# Altium schematic symbol library Converter_DCDC.SchLib: 544 symbols (part 5 of 6)
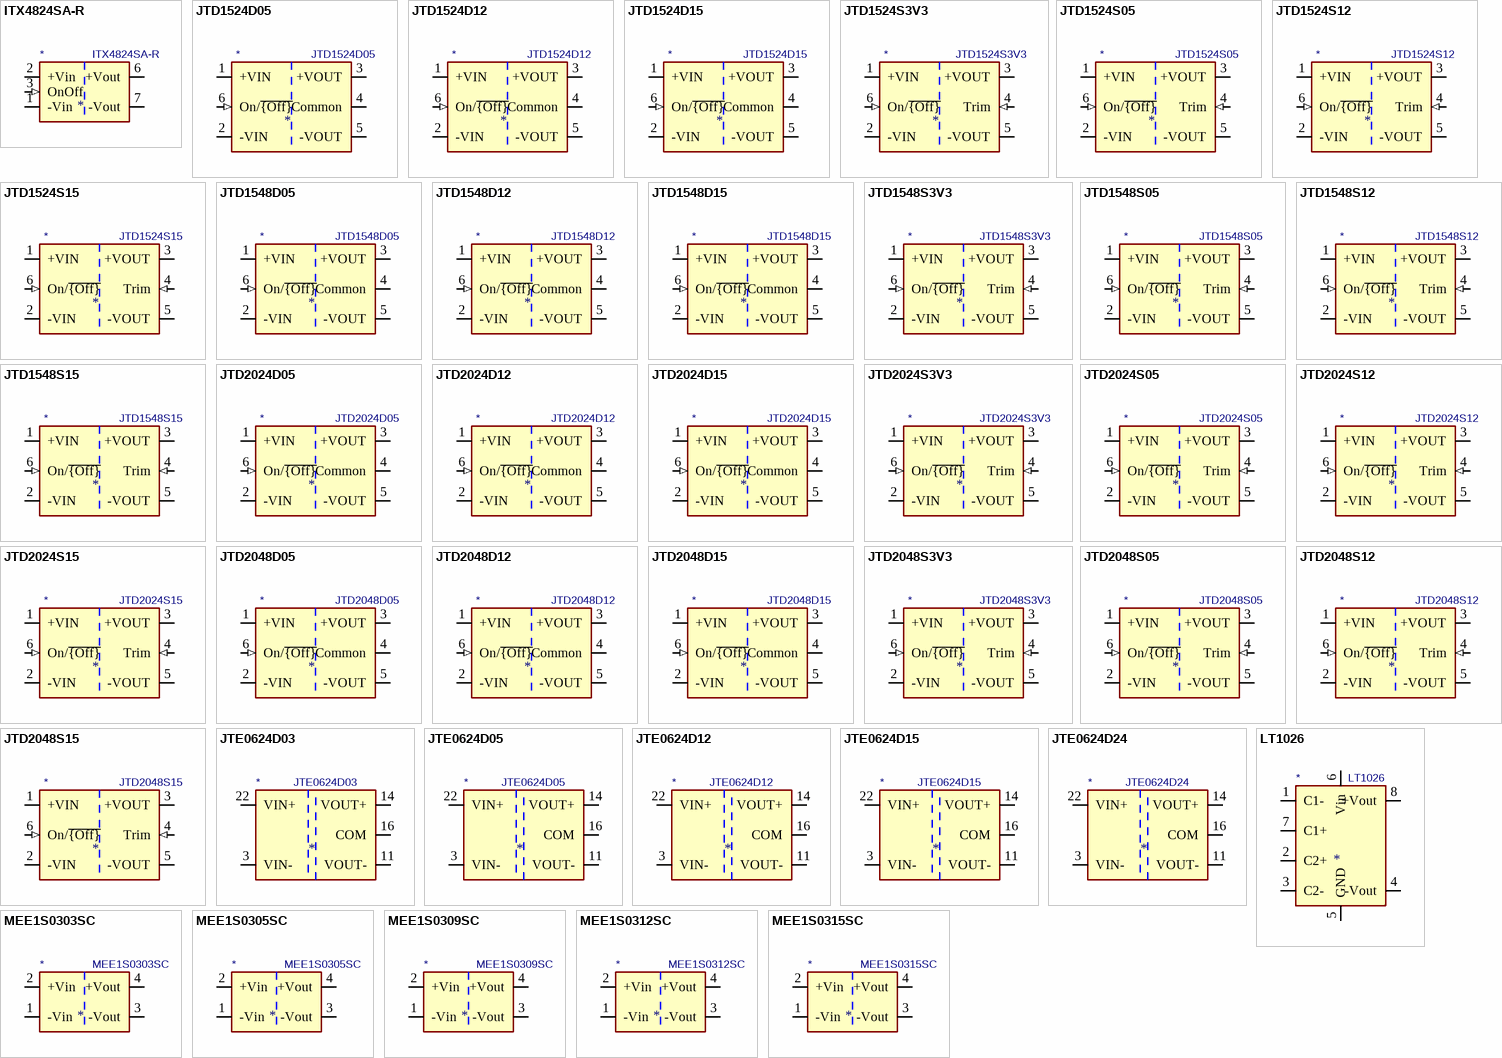
[diagram p17: symbols ITX4824SA-R to MEE1S0315SC]

## JTD1548D12
designator *  value JTD1548D12
ki_keywords: isolated isolation dc-dc converter step-down dual; ki_description: Isolated 15W 4:1 input DC/DC converter module, 18-75V input voltage, +/-12V output voltage, DIP; ki_fp_filters: Converter*DCDC*XP?POWER*JTDxxxxxxx*; Footprint: Converter_DCDC:Converter_DCDC_XP_POWER_JTDxxxxxxx_THT; Supplier: https://www.xppower.com/portals/0/pdfs/SF_JTD15.pdf
footprint Converter_DCDC_XP_POWER_JTDxxxxxxx_THT
pins: 1 +VIN (power), 2 -VIN (power), 3 +VOUT (power), 4 Common (power), 5 -VOUT (power), 6 On/~{{Off}} (in)

## JTD1548D15
designator *  value JTD1548D15
ki_keywords: isolated isolation dc-dc converter step-down dual; ki_description: Isolated 15W 4:1 input DC/DC converter module, 18-75V input voltage, +/-15V output voltage, DIP; ki_fp_filters: Converter*DCDC*XP?POWER*JTDxxxxxxx*; Footprint: Converter_DCDC:Converter_DCDC_XP_POWER_JTDxxxxxxx_THT; Supplier: https://www.xppower.com/portals/0/pdfs/SF_JTD15.pdf
footprint Converter_DCDC_XP_POWER_JTDxxxxxxx_THT
pins: 1 +VIN (power), 2 -VIN (power), 3 +VOUT (power), 4 Common (power), 5 -VOUT (power), 6 On/~{{Off}} (in)

## JTD1548S3V3
designator *  value JTD1548S3V3
ki_keywords: isolated isolation dc-dc converter step-down; ki_description: Isolated 15W 4:1 input DC/DC converter module, 18-75V input voltage, 3.3V output voltage, DIP; ki_fp_filters: Converter*DCDC*XP?POWER*JTDxxxxxxx*; Footprint: Converter_DCDC:Converter_DCDC_XP_POWER_JTDxxxxxxx_THT; Supplier: https://www.xppower.com/portals/0/pdfs/SF_JTD15.pdf
footprint Converter_DCDC_XP_POWER_JTDxxxxxxx_THT
pins: 1 +VIN (power), 2 -VIN (power), 3 +VOUT (power), 4 Trim (in), 5 -VOUT (power), 6 On/~{{Off}} (in)

## JTD1548S05
designator *  value JTD1548S05
ki_keywords: isolated isolation dc-dc converter step-down; ki_description: Isolated 15W 4:1 input DC/DC converter module, 18-75V input voltage, 5V output voltage, DIP; ki_fp_filters: Converter*DCDC*XP?POWER*JTDxxxxxxx*; Footprint: Converter_DCDC:Converter_DCDC_XP_POWER_JTDxxxxxxx_THT; Supplier: https://www.xppower.com/portals/0/pdfs/SF_JTD15.pdf
footprint Converter_DCDC_XP_POWER_JTDxxxxxxx_THT
pins: 1 +VIN (power), 2 -VIN (power), 3 +VOUT (power), 4 Trim (in), 5 -VOUT (power), 6 On/~{{Off}} (in)

## JTD1548S12
designator *  value JTD1548S12
ki_keywords: isolated isolation dc-dc converter step-down; ki_description: Isolated 15W 4:1 input DC/DC converter module, 18-75V input voltage, 12V output voltage, DIP; ki_fp_filters: Converter*DCDC*XP?POWER*JTDxxxxxxx*; Footprint: Converter_DCDC:Converter_DCDC_XP_POWER_JTDxxxxxxx_THT; Supplier: https://www.xppower.com/portals/0/pdfs/SF_JTD15.pdf
footprint Converter_DCDC_XP_POWER_JTDxxxxxxx_THT
pins: 1 +VIN (power), 2 -VIN (power), 3 +VOUT (power), 4 Trim (in), 5 -VOUT (power), 6 On/~{{Off}} (in)

## JTD1548S15
designator *  value JTD1548S15
ki_keywords: isolated isolation dc-dc converter step-down; ki_description: Isolated 15W 4:1 input DC/DC converter module, 18-75V input voltage, 15V output voltage, DIP; ki_fp_filters: Converter*DCDC*XP?POWER*JTDxxxxxxx*; Footprint: Converter_DCDC:Converter_DCDC_XP_POWER_JTDxxxxxxx_THT; Supplier: https://www.xppower.com/portals/0/pdfs/SF_JTD15.pdf
footprint Converter_DCDC_XP_POWER_JTDxxxxxxx_THT
pins: 1 +VIN (power), 2 -VIN (power), 3 +VOUT (power), 4 Trim (in), 5 -VOUT (power), 6 On/~{{Off}} (in)

## JTD2024D05
designator *  value JTD2024D05
ki_keywords: isolated isolation dc-dc converter step-down dual; ki_description: Isolated 20W 4:1 input DC/DC converter module, 9-36V input voltage, +/-5V output voltage, DIP; ki_fp_filters: Converter*DCDC*XP?POWER*JTDxxxxxxx*; Footprint: Converter_DCDC:Converter_DCDC_XP_POWER_JTDxxxxxxx_THT; Supplier: https://www.xppower.com/portals/0/pdfs/SF_JTD20.pdf
footprint Converter_DCDC_XP_POWER_JTDxxxxxxx_THT
pins: 1 +VIN (power), 2 -VIN (power), 3 +VOUT (power), 4 Common (power), 5 -VOUT (power), 6 On/~{{Off}} (in)

## JTD2024D12
designator *  value JTD2024D12
ki_keywords: isolated isolation dc-dc converter step-down dual; ki_description: Isolated 20W 4:1 input DC/DC converter module, 9-36V input voltage, +/-12V output voltage, DIP; ki_fp_filters: Converter*DCDC*XP?POWER*JTDxxxxxxx*; Footprint: Converter_DCDC:Converter_DCDC_XP_POWER_JTDxxxxxxx_THT; Supplier: https://www.xppower.com/portals/0/pdfs/SF_JTD20.pdf
footprint Converter_DCDC_XP_POWER_JTDxxxxxxx_THT
pins: 1 +VIN (power), 2 -VIN (power), 3 +VOUT (power), 4 Common (power), 5 -VOUT (power), 6 On/~{{Off}} (in)

## JTD2024D15
designator *  value JTD2024D15
ki_keywords: isolated isolation dc-dc converter step-down dual; ki_description: Isolated 20W 4:1 input DC/DC converter module, 9-36V input voltage, +/-15V output voltage, DIP; ki_fp_filters: Converter*DCDC*XP?POWER*JTDxxxxxxx*; Footprint: Converter_DCDC:Converter_DCDC_XP_POWER_JTDxxxxxxx_THT; Supplier: https://www.xppower.com/portals/0/pdfs/SF_JTD20.pdf
footprint Converter_DCDC_XP_POWER_JTDxxxxxxx_THT
pins: 1 +VIN (power), 2 -VIN (power), 3 +VOUT (power), 4 Common (power), 5 -VOUT (power), 6 On/~{{Off}} (in)

## JTD2024S3V3
designator *  value JTD2024S3V3
ki_keywords: isolated isolation dc-dc converter step-down; ki_description: Isolated 20W 4:1 input DC/DC converter module, 9-36V input voltage, 3.3V output voltage, DIP; ki_fp_filters: Converter*DCDC*XP?POWER*JTDxxxxxxx*; Footprint: Converter_DCDC:Converter_DCDC_XP_POWER_JTDxxxxxxx_THT; Supplier: https://www.xppower.com/portals/0/pdfs/SF_JTD20.pdf
footprint Converter_DCDC_XP_POWER_JTDxxxxxxx_THT
pins: 1 +VIN (power), 2 -VIN (power), 3 +VOUT (power), 4 Trim (in), 5 -VOUT (power), 6 On/~{{Off}} (in)

## JTD2024S05
designator *  value JTD2024S05
ki_keywords: isolated isolation dc-dc converter step-down; ki_description: Isolated 20W 4:1 input DC/DC converter module, 9-36V input voltage, 5V output voltage, DIP; ki_fp_filters: Converter*DCDC*XP?POWER*JTDxxxxxxx*; Footprint: Converter_DCDC:Converter_DCDC_XP_POWER_JTDxxxxxxx_THT; Supplier: https://www.xppower.com/portals/0/pdfs/SF_JTD20.pdf
footprint Converter_DCDC_XP_POWER_JTDxxxxxxx_THT
pins: 1 +VIN (power), 2 -VIN (power), 3 +VOUT (power), 4 Trim (in), 5 -VOUT (power), 6 On/~{{Off}} (in)

## JTD2024S12
designator *  value JTD2024S12
ki_keywords: isolated isolation dc-dc converter step-down; ki_description: Isolated 20W 4:1 input DC/DC converter module, 9-36V input voltage, 12V output voltage, DIP; ki_fp_filters: Converter*DCDC*XP?POWER*JTDxxxxxxx*; Footprint: Converter_DCDC:Converter_DCDC_XP_POWER_JTDxxxxxxx_THT; Supplier: https://www.xppower.com/portals/0/pdfs/SF_JTD20.pdf
footprint Converter_DCDC_XP_POWER_JTDxxxxxxx_THT
pins: 1 +VIN (power), 2 -VIN (power), 3 +VOUT (power), 4 Trim (in), 5 -VOUT (power), 6 On/~{{Off}} (in)

## JTD2024S15
designator *  value JTD2024S15
ki_keywords: isolated isolation dc-dc converter step-down; ki_description: Isolated 20W 4:1 input DC/DC converter module, 9-36V input voltage, 15V output voltage, DIP; ki_fp_filters: Converter*DCDC*XP?POWER*JTDxxxxxxx*; Footprint: Converter_DCDC:Converter_DCDC_XP_POWER_JTDxxxxxxx_THT; Supplier: https://www.xppower.com/portals/0/pdfs/SF_JTD20.pdf
footprint Converter_DCDC_XP_POWER_JTDxxxxxxx_THT
pins: 1 +VIN (power), 2 -VIN (power), 3 +VOUT (power), 4 Trim (in), 5 -VOUT (power), 6 On/~{{Off}} (in)

## JTD2048D05
designator *  value JTD2048D05
ki_keywords: isolated isolation dc-dc converter step-down dual; ki_description: Isolated 20W 4:1 input DC/DC converter module, 18-75V input voltage, +/-5V output voltage, DIP; ki_fp_filters: Converter*DCDC*XP?POWER*JTDxxxxxxx*; Footprint: Converter_DCDC:Converter_DCDC_XP_POWER_JTDxxxxxxx_THT; Supplier: https://www.xppower.com/portals/0/pdfs/SF_JTD20.pdf
footprint Converter_DCDC_XP_POWER_JTDxxxxxxx_THT
pins: 1 +VIN (power), 2 -VIN (power), 3 +VOUT (power), 4 Common (power), 5 -VOUT (power), 6 On/~{{Off}} (in)

## JTD2048D12
designator *  value JTD2048D12
ki_keywords: isolated isolation dc-dc converter step-down dual; ki_description: Isolated 20W 4:1 input DC/DC converter module, 18-75V input voltage, +/-12V output voltage, DIP; ki_fp_filters: Converter*DCDC*XP?POWER*JTDxxxxxxx*; Footprint: Converter_DCDC:Converter_DCDC_XP_POWER_JTDxxxxxxx_THT; Supplier: https://www.xppower.com/portals/0/pdfs/SF_JTD20.pdf
footprint Converter_DCDC_XP_POWER_JTDxxxxxxx_THT
pins: 1 +VIN (power), 2 -VIN (power), 3 +VOUT (power), 4 Common (power), 5 -VOUT (power), 6 On/~{{Off}} (in)

## JTD2048D15
designator *  value JTD2048D15
ki_keywords: isolated isolation dc-dc converter step-down dual; ki_description: Isolated 20W 4:1 input DC/DC converter module, 18-75V input voltage, +/-15V output voltage, DIP; ki_fp_filters: Converter*DCDC*XP?POWER*JTDxxxxxxx*; Footprint: Converter_DCDC:Converter_DCDC_XP_POWER_JTDxxxxxxx_THT; Supplier: https://www.xppower.com/portals/0/pdfs/SF_JTD20.pdf
footprint Converter_DCDC_XP_POWER_JTDxxxxxxx_THT
pins: 1 +VIN (power), 2 -VIN (power), 3 +VOUT (power), 4 Common (power), 5 -VOUT (power), 6 On/~{{Off}} (in)

## JTD2048S3V3
designator *  value JTD2048S3V3
ki_keywords: isolated isolation dc-dc converter step-down; ki_description: Isolated 20W 4:1 input DC/DC converter module, 18-75V input voltage, 3.3V output voltage, DIP; ki_fp_filters: Converter*DCDC*XP?POWER*JTDxxxxxxx*; Footprint: Converter_DCDC:Converter_DCDC_XP_POWER_JTDxxxxxxx_THT; Supplier: https://www.xppower.com/portals/0/pdfs/SF_JTD20.pdf
footprint Converter_DCDC_XP_POWER_JTDxxxxxxx_THT
pins: 1 +VIN (power), 2 -VIN (power), 3 +VOUT (power), 4 Trim (in), 5 -VOUT (power), 6 On/~{{Off}} (in)

## JTD2048S05
designator *  value JTD2048S05
ki_keywords: isolated isolation dc-dc converter step-down; ki_description: Isolated 20W 4:1 input DC/DC converter module, 18-75V input voltage, 5V output voltage, DIP; ki_fp_filters: Converter*DCDC*XP?POWER*JTDxxxxxxx*; Footprint: Converter_DCDC:Converter_DCDC_XP_POWER_JTDxxxxxxx_THT; Supplier: https://www.xppower.com/portals/0/pdfs/SF_JTD20.pdf
footprint Converter_DCDC_XP_POWER_JTDxxxxxxx_THT
pins: 1 +VIN (power), 2 -VIN (power), 3 +VOUT (power), 4 Trim (in), 5 -VOUT (power), 6 On/~{{Off}} (in)

## JTD2048S12
designator *  value JTD2048S12
ki_keywords: isolated isolation dc-dc converter step-down; ki_description: Isolated 20W 4:1 input DC/DC converter module, 18-75V input voltage, 12V output voltage, DIP; ki_fp_filters: Converter*DCDC*XP?POWER*JTDxxxxxxx*; Footprint: Converter_DCDC:Converter_DCDC_XP_POWER_JTDxxxxxxx_THT; Supplier: https://www.xppower.com/portals/0/pdfs/SF_JTD20.pdf
footprint Converter_DCDC_XP_POWER_JTDxxxxxxx_THT
pins: 1 +VIN (power), 2 -VIN (power), 3 +VOUT (power), 4 Trim (in), 5 -VOUT (power), 6 On/~{{Off}} (in)

## JTD2048S15
designator *  value JTD2048S15
ki_keywords: isolated isolation dc-dc converter step-down; ki_description: Isolated 20W 4:1 input DC/DC converter module, 18-75V input voltage, 15V output voltage, DIP; ki_fp_filters: Converter*DCDC*XP?POWER*JTDxxxxxxx*; Footprint: Converter_DCDC:Converter_DCDC_XP_POWER_JTDxxxxxxx_THT; Supplier: https://www.xppower.com/portals/0/pdfs/SF_JTD20.pdf
footprint Converter_DCDC_XP_POWER_JTDxxxxxxx_THT
pins: 1 +VIN (power), 2 -VIN (power), 3 +VOUT (power), 4 Trim (in), 5 -VOUT (power), 6 On/~{{Off}} (in)

## JTE0624D03
designator *  value JTE0624D03
ki_keywords: XP_POWER isolated DC/DC Converter module; ki_description: XP Power 6W Isolated DC/DC Converter Module, Dual Output Voltage ±3.3V, 9-36V Input Voltage; ki_fp_filters: *XP?POWER*JTExxxxDxx*; Footprint: Converter_DCDC:Converter_DCDC_XP_POWER_JTExxxxDxx_THT; Supplier: https://www.xppower.com/Portals/0/pdfs/SF_JTE06.pdf
footprint Converter_DCDC_XP_POWER_JTExxxxDxx_THT
pins: 2 VIN- hidden, 3 VIN- (power), 9 COM hidden, 11 VOUT- (power), 14 VOUT+ (power), 16 COM (power), 22 VIN+ (power), 23 VIN+ hidden

## JTE0624D05
designator *  value JTE0624D05
ki_keywords: XP_POWER isolated DC/DC Converter module; ki_description: XP Power 6W Isolated DC/DC Converter Module, Dual Output Voltage ±5V, 9-36V Input Voltage; ki_fp_filters: *XP?POWER*JTExxxxDxx*; Footprint: Converter_DCDC:Converter_DCDC_XP_POWER_JTExxxxDxx_THT; Supplier: https://www.xppower.com/Portals/0/pdfs/SF_JTE06.pdf
footprint Converter_DCDC_XP_POWER_JTExxxxDxx_THT
pins: 2 VIN- hidden, 3 VIN- (power), 9 COM hidden, 11 VOUT- (power), 14 VOUT+ (power), 16 COM (power), 22 VIN+ (power), 23 VIN+ hidden

## JTE0624D12
designator *  value JTE0624D12
ki_keywords: XP_POWER isolated DC/DC Converter module; ki_description: XP Power 6W Isolated DC/DC Converter Module, Dual Output Voltage ±12V, 9-36V Input Voltage; ki_fp_filters: *XP?POWER*JTExxxxDxx*; Footprint: Converter_DCDC:Converter_DCDC_XP_POWER_JTExxxxDxx_THT; Supplier: https://www.xppower.com/Portals/0/pdfs/SF_JTE06.pdf
footprint Converter_DCDC_XP_POWER_JTExxxxDxx_THT
pins: 2 VIN- hidden, 3 VIN- (power), 9 COM hidden, 11 VOUT- (power), 14 VOUT+ (power), 16 COM (power), 22 VIN+ (power), 23 VIN+ hidden

## JTE0624D15
designator *  value JTE0624D15
ki_keywords: XP_POWER isolated DC/DC Converter module; ki_description: XP Power 6W Isolated DC/DC Converter Module, Dual Output Voltage ±15V, 9-36V Input Voltage; ki_fp_filters: *XP?POWER*JTExxxxDxx*; Footprint: Converter_DCDC:Converter_DCDC_XP_POWER_JTExxxxDxx_THT; Supplier: https://www.xppower.com/Portals/0/pdfs/SF_JTE06.pdf
footprint Converter_DCDC_XP_POWER_JTExxxxDxx_THT
pins: 2 VIN- hidden, 3 VIN- (power), 9 COM hidden, 11 VOUT- (power), 14 VOUT+ (power), 16 COM (power), 22 VIN+ (power), 23 VIN+ hidden

## JTE0624D24
designator *  value JTE0624D24
ki_keywords: XP_POWER isolated DC/DC Converter module; ki_description: XP Power 6W Isolated DC/DC Converter Module, Dual Output Voltage ±24V, 9-36V Input Voltage; ki_fp_filters: *XP?POWER*JTExxxxDxx*; Footprint: Converter_DCDC:Converter_DCDC_XP_POWER_JTExxxxDxx_THT; Supplier: https://www.xppower.com/Portals/0/pdfs/SF_JTE06.pdf
footprint Converter_DCDC_XP_POWER_JTExxxxDxx_THT
pins: 2 VIN- hidden, 3 VIN- (power), 9 COM hidden, 11 VOUT- (power), 14 VOUT+ (power), 16 COM (power), 22 VIN+ (power), 23 VIN+ hidden

## LT1026
designator *  value LT1026
ki_keywords: monolithic switched capacitor voltage doubler inverter; ki_description: voltage doubler and inverter; ki_fp_filters: DIP*W7.62mm* SOIC*3.9x4.9mm*P1.27mm*; Supplier: https://www.analog.com/media/en/technical-documentation/data-sheets/1026fb.pdf
pins: 1 C1-, 2 C2+, 3 C2-, 4 -Vout (power), 5 GND (power), 6 Vin (power), 7 C1+, 8 +Vout (power)

## MEE1S0303SC
designator *  value MEE1S0303SC
ki_keywords: murata DC/DC isolated converter; ki_description: 1W, 1000 VDC isolated DC/DC converter, 3V3 input, 3V3 output, SIP; ki_fp_filters: Converter*DCDC*Murata*MEE1SxxxxSC*THT*; Footprint: Converter_DCDC:Converter_DCDC_Murata_MEE1SxxxxSC_THT; Supplier: https://power.murata.com/pub/data/power/ncl/kdc_mee1.pdf
footprint Converter_DCDC_Murata_MEE1SxxxxSC_THT
pins: 1 -Vin (power), 2 +Vin (power), 3 -Vout (power), 4 +Vout (power)

## MEE1S0305SC
designator *  value MEE1S0305SC
ki_keywords: murata DC/DC isolated converter; ki_description: 1W, 1000 VDC isolated DC/DC converter, 3V3 input, 5V output, SIP; ki_fp_filters: Converter*DCDC*Murata*MEE1SxxxxSC*THT*; Footprint: Converter_DCDC:Converter_DCDC_Murata_MEE1SxxxxSC_THT; Supplier: https://power.murata.com/pub/data/power/ncl/kdc_mee1.pdf
footprint Converter_DCDC_Murata_MEE1SxxxxSC_THT
pins: 1 -Vin (power), 2 +Vin (power), 3 -Vout (power), 4 +Vout (power)

## MEE1S0309SC
designator *  value MEE1S0309SC
ki_keywords: murata DC/DC isolated converter; ki_description: 1W, 1000 VDC isolated DC/DC converter, 3V3 input, 9V output, SIP; ki_fp_filters: Converter*DCDC*Murata*MEE1SxxxxSC*THT*; Footprint: Converter_DCDC:Converter_DCDC_Murata_MEE1SxxxxSC_THT; Supplier: https://power.murata.com/pub/data/power/ncl/kdc_mee1.pdf
footprint Converter_DCDC_Murata_MEE1SxxxxSC_THT
pins: 1 -Vin (power), 2 +Vin (power), 3 -Vout (power), 4 +Vout (power)

## MEE1S0312SC
designator *  value MEE1S0312SC
ki_keywords: murata DC/DC isolated converter; ki_description: 1W, 1000 VDC isolated DC/DC converter, 3V3 input, 12V output, SIP; ki_fp_filters: Converter*DCDC*Murata*MEE1SxxxxSC*THT*; Footprint: Converter_DCDC:Converter_DCDC_Murata_MEE1SxxxxSC_THT; Supplier: https://power.murata.com/pub/data/power/ncl/kdc_mee1.pdf
footprint Converter_DCDC_Murata_MEE1SxxxxSC_THT
pins: 1 -Vin (power), 2 +Vin (power), 3 -Vout (power), 4 +Vout (power)

## MEE1S0315SC
designator *  value MEE1S0315SC
ki_keywords: murata DC/DC isolated converter; ki_description: 1W, 1000 VDC isolated DC/DC converter, 3V3 input, 15V output, SIP; ki_fp_filters: Converter*DCDC*Murata*MEE1SxxxxSC*THT*; Footprint: Converter_DCDC:Converter_DCDC_Murata_MEE1SxxxxSC_THT; Supplier: https://power.murata.com/pub/data/power/ncl/kdc_mee1.pdf
footprint Converter_DCDC_Murata_MEE1SxxxxSC_THT
pins: 1 -Vin (power), 2 +Vin (power), 3 -Vout (power), 4 +Vout (power)

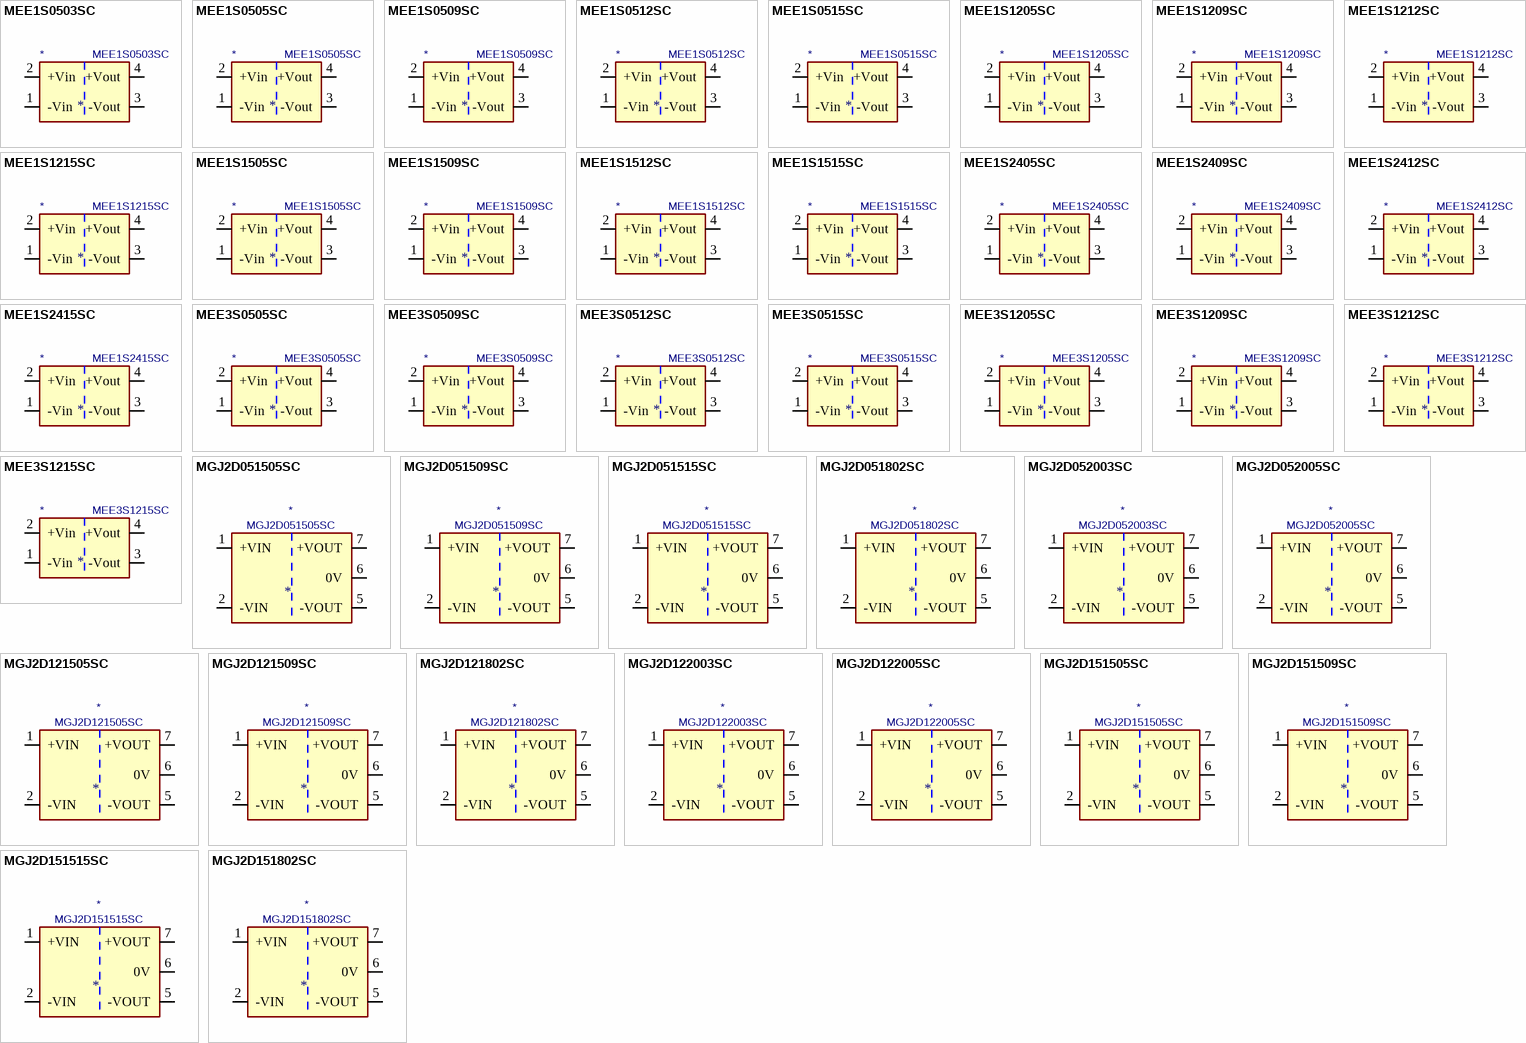
[diagram p10: symbols MEE1S0503SC to MGJ2D151802SC]

## MEE1S0503SC
designator *  value MEE1S0503SC
ki_keywords: murata DC/DC isolated converter; ki_description: 1W, 1000 VDC isolated DC/DC converter, 5V input, 3V3 output, SIP; ki_fp_filters: Converter*DCDC*Murata*MEE1SxxxxSC*THT*; Footprint: Converter_DCDC:Converter_DCDC_Murata_MEE1SxxxxSC_THT; Supplier: https://power.murata.com/pub/data/power/ncl/kdc_mee1.pdf
footprint Converter_DCDC_Murata_MEE1SxxxxSC_THT
pins: 1 -Vin (power), 2 +Vin (power), 3 -Vout (power), 4 +Vout (power)

## MEE1S0505SC
designator *  value MEE1S0505SC
ki_keywords: murata DC/DC isolated converter; ki_description: 1W, 1000 VDC isolated DC/DC converter, 5V input, 5V output, SIP; ki_fp_filters: Converter*DCDC*Murata*MEE1SxxxxSC*THT*; Footprint: Converter_DCDC:Converter_DCDC_Murata_MEE1SxxxxSC_THT; Supplier: https://power.murata.com/pub/data/power/ncl/kdc_mee1.pdf
footprint Converter_DCDC_Murata_MEE1SxxxxSC_THT
pins: 1 -Vin (power), 2 +Vin (power), 3 -Vout (power), 4 +Vout (power)

## MEE1S0509SC
designator *  value MEE1S0509SC
ki_keywords: murata DC/DC isolated converter; ki_description: 1W, 1000 VDC isolated DC/DC converter, 5V input, 9V output, SIP; ki_fp_filters: Converter*DCDC*Murata*MEE1SxxxxSC*THT*; Footprint: Converter_DCDC:Converter_DCDC_Murata_MEE1SxxxxSC_THT; Supplier: https://power.murata.com/pub/data/power/ncl/kdc_mee1.pdf
footprint Converter_DCDC_Murata_MEE1SxxxxSC_THT
pins: 1 -Vin (power), 2 +Vin (power), 3 -Vout (power), 4 +Vout (power)

## MEE1S0512SC
designator *  value MEE1S0512SC
ki_keywords: murata DC/DC isolated converter; ki_description: 1W, 1000 VDC isolated DC/DC converter, 5V input, 12V output, SIP; ki_fp_filters: Converter*DCDC*Murata*MEE1SxxxxSC*THT*; Footprint: Converter_DCDC:Converter_DCDC_Murata_MEE1SxxxxSC_THT; Supplier: https://power.murata.com/pub/data/power/ncl/kdc_mee1.pdf
footprint Converter_DCDC_Murata_MEE1SxxxxSC_THT
pins: 1 -Vin (power), 2 +Vin (power), 3 -Vout (power), 4 +Vout (power)

## MEE1S0515SC
designator *  value MEE1S0515SC
ki_keywords: murata DC/DC isolated converter; ki_description: 1W, 1000 VDC isolated DC/DC converter, 5V input, 15V output, SIP; ki_fp_filters: Converter*DCDC*Murata*MEE1SxxxxSC*THT*; Footprint: Converter_DCDC:Converter_DCDC_Murata_MEE1SxxxxSC_THT; Supplier: https://power.murata.com/pub/data/power/ncl/kdc_mee1.pdf
footprint Converter_DCDC_Murata_MEE1SxxxxSC_THT
pins: 1 -Vin (power), 2 +Vin (power), 3 -Vout (power), 4 +Vout (power)

## MEE1S1205SC
designator *  value MEE1S1205SC
ki_keywords: murata DC/DC isolated converter; ki_description: 1W, 1000 VDC isolated DC/DC converter, 12V input, 5V output, SIP; ki_fp_filters: Converter*DCDC*Murata*MEE1SxxxxSC*THT*; Footprint: Converter_DCDC:Converter_DCDC_Murata_MEE1SxxxxSC_THT; Supplier: https://power.murata.com/pub/data/power/ncl/kdc_mee1.pdf
footprint Converter_DCDC_Murata_MEE1SxxxxSC_THT
pins: 1 -Vin (power), 2 +Vin (power), 3 -Vout (power), 4 +Vout (power)

## MEE1S1209SC
designator *  value MEE1S1209SC
ki_keywords: murata DC/DC isolated converter; ki_description: 1W, 1000 VDC isolated DC/DC converter, 12V input, 9V output, SIP; ki_fp_filters: Converter*DCDC*Murata*MEE1SxxxxSC*THT*; Footprint: Converter_DCDC:Converter_DCDC_Murata_MEE1SxxxxSC_THT; Supplier: https://power.murata.com/pub/data/power/ncl/kdc_mee1.pdf
footprint Converter_DCDC_Murata_MEE1SxxxxSC_THT
pins: 1 -Vin (power), 2 +Vin (power), 3 -Vout (power), 4 +Vout (power)

## MEE1S1212SC
designator *  value MEE1S1212SC
ki_keywords: murata DC/DC isolated converter; ki_description: 1W, 1000 VDC isolated DC/DC converter, 12V input, 12V output, SIP; ki_fp_filters: Converter*DCDC*Murata*MEE1SxxxxSC*THT*; Footprint: Converter_DCDC:Converter_DCDC_Murata_MEE1SxxxxSC_THT; Supplier: https://power.murata.com/pub/data/power/ncl/kdc_mee1.pdf
footprint Converter_DCDC_Murata_MEE1SxxxxSC_THT
pins: 1 -Vin (power), 2 +Vin (power), 3 -Vout (power), 4 +Vout (power)

## MEE1S1215SC
designator *  value MEE1S1215SC
ki_keywords: murata DC/DC isolated converter; ki_description: 1W, 1000 VDC isolated DC/DC converter, 12V input, 15V output, SIP; ki_fp_filters: Converter*DCDC*Murata*MEE1SxxxxSC*THT*; Footprint: Converter_DCDC:Converter_DCDC_Murata_MEE1SxxxxSC_THT; Supplier: https://power.murata.com/pub/data/power/ncl/kdc_mee1.pdf
footprint Converter_DCDC_Murata_MEE1SxxxxSC_THT
pins: 1 -Vin (power), 2 +Vin (power), 3 -Vout (power), 4 +Vout (power)

## MEE1S1505SC
designator *  value MEE1S1505SC
ki_keywords: murata DC/DC isolated converter; ki_description: 1W, 1000 VDC isolated DC/DC converter, 15V input, 5V output, SIP; ki_fp_filters: Converter*DCDC*Murata*MEE1SxxxxSC*THT*; Footprint: Converter_DCDC:Converter_DCDC_Murata_MEE1SxxxxSC_THT; Supplier: https://power.murata.com/pub/data/power/ncl/kdc_mee1.pdf
footprint Converter_DCDC_Murata_MEE1SxxxxSC_THT
pins: 1 -Vin (power), 2 +Vin (power), 3 -Vout (power), 4 +Vout (power)

## MEE1S1509SC
designator *  value MEE1S1509SC
ki_keywords: murata DC/DC isolated converter; ki_description: 1W, 1000 VDC isolated DC/DC converter, 15V input, 9V output, SIP; ki_fp_filters: Converter*DCDC*Murata*MEE1SxxxxSC*THT*; Footprint: Converter_DCDC:Converter_DCDC_Murata_MEE1SxxxxSC_THT; Supplier: https://power.murata.com/pub/data/power/ncl/kdc_mee1.pdf
footprint Converter_DCDC_Murata_MEE1SxxxxSC_THT
pins: 1 -Vin (power), 2 +Vin (power), 3 -Vout (power), 4 +Vout (power)

## MEE1S1512SC
designator *  value MEE1S1512SC
ki_keywords: murata DC/DC isolated converter; ki_description: 1W, 1000 VDC isolated DC/DC converter, 15V input, 12V output, SIP; ki_fp_filters: Converter*DCDC*Murata*MEE1SxxxxSC*THT*; Footprint: Converter_DCDC:Converter_DCDC_Murata_MEE1SxxxxSC_THT; Supplier: https://power.murata.com/pub/data/power/ncl/kdc_mee1.pdf
footprint Converter_DCDC_Murata_MEE1SxxxxSC_THT
pins: 1 -Vin (power), 2 +Vin (power), 3 -Vout (power), 4 +Vout (power)

## MEE1S1515SC
designator *  value MEE1S1515SC
ki_keywords: murata DC/DC isolated converter; ki_description: 1W, 1000 VDC isolated DC/DC converter, 15V input, 15V output, SIP; ki_fp_filters: Converter*DCDC*Murata*MEE1SxxxxSC*THT*; Footprint: Converter_DCDC:Converter_DCDC_Murata_MEE1SxxxxSC_THT; Supplier: https://power.murata.com/pub/data/power/ncl/kdc_mee1.pdf
footprint Converter_DCDC_Murata_MEE1SxxxxSC_THT
pins: 1 -Vin (power), 2 +Vin (power), 3 -Vout (power), 4 +Vout (power)

## MEE1S2405SC
designator *  value MEE1S2405SC
ki_keywords: murata DC/DC isolated converter; ki_description: 1W, 1000 VDC isolated DC/DC converter, 24V input, 5V output, SIP; ki_fp_filters: Converter*DCDC*Murata*MEE1SxxxxSC*THT*; Footprint: Converter_DCDC:Converter_DCDC_Murata_MEE1SxxxxSC_THT; Supplier: https://power.murata.com/pub/data/power/ncl/kdc_mee1.pdf
footprint Converter_DCDC_Murata_MEE1SxxxxSC_THT
pins: 1 -Vin (power), 2 +Vin (power), 3 -Vout (power), 4 +Vout (power)

## MEE1S2409SC
designator *  value MEE1S2409SC
ki_keywords: murata DC/DC isolated converter; ki_description: 1W, 1000 VDC isolated DC/DC converter, 24V input, 9V output, SIP; ki_fp_filters: Converter*DCDC*Murata*MEE1SxxxxSC*THT*; Footprint: Converter_DCDC:Converter_DCDC_Murata_MEE1SxxxxSC_THT; Supplier: https://power.murata.com/pub/data/power/ncl/kdc_mee1.pdf
footprint Converter_DCDC_Murata_MEE1SxxxxSC_THT
pins: 1 -Vin (power), 2 +Vin (power), 3 -Vout (power), 4 +Vout (power)

## MEE1S2412SC
designator *  value MEE1S2412SC
ki_keywords: murata DC/DC isolated converter; ki_description: 1W, 1000 VDC isolated DC/DC converter, 24V input, 12V output, SIP; ki_fp_filters: Converter*DCDC*Murata*MEE1SxxxxSC*THT*; Footprint: Converter_DCDC:Converter_DCDC_Murata_MEE1SxxxxSC_THT; Supplier: https://power.murata.com/pub/data/power/ncl/kdc_mee1.pdf
footprint Converter_DCDC_Murata_MEE1SxxxxSC_THT
pins: 1 -Vin (power), 2 +Vin (power), 3 -Vout (power), 4 +Vout (power)

## MEE1S2415SC
designator *  value MEE1S2415SC
ki_keywords: murata DC/DC isolated converter; ki_description: 1W, 1000 VDC isolated DC/DC converter, 24V input, 15V output, SIP; ki_fp_filters: Converter*DCDC*Murata*MEE1SxxxxSC*THT*; Footprint: Converter_DCDC:Converter_DCDC_Murata_MEE1SxxxxSC_THT; Supplier: https://power.murata.com/pub/data/power/ncl/kdc_mee1.pdf
footprint Converter_DCDC_Murata_MEE1SxxxxSC_THT
pins: 1 -Vin (power), 2 +Vin (power), 3 -Vout (power), 4 +Vout (power)

## MEE3S0505SC
designator *  value MEE3S0505SC
ki_keywords: murata DC/DC isolated converter; ki_description: 3W, 1000 VDC isolated DC/DC converter, 5V input, 5V output, SIP; ki_fp_filters: Converter*DCDC*Murata*MEE3SxxxxSC*THT*; Footprint: Converter_DCDC:Converter_DCDC_Murata_MEE3SxxxxSC_THT; Supplier: https://power.murata.com/pub/data/power/ncl/kdc_mee3.pdf
footprint Converter_DCDC_Murata_MEE3SxxxxSC_THT
pins: 1 -Vin (power), 2 +Vin (power), 3 -Vout (power), 4 +Vout (power)

## MEE3S0509SC
designator *  value MEE3S0509SC
ki_keywords: murata DC/DC isolated converter; ki_description: 3W, 1000 VDC isolated DC/DC converter, 5V input, 9V output, SIP; ki_fp_filters: Converter*DCDC*Murata*MEE3SxxxxSC*THT*; Footprint: Converter_DCDC:Converter_DCDC_Murata_MEE3SxxxxSC_THT; Supplier: https://power.murata.com/pub/data/power/ncl/kdc_mee3.pdf
footprint Converter_DCDC_Murata_MEE3SxxxxSC_THT
pins: 1 -Vin (power), 2 +Vin (power), 3 -Vout (power), 4 +Vout (power)

## MEE3S0512SC
designator *  value MEE3S0512SC
ki_keywords: murata DC/DC isolated converter; ki_description: 3W, 1000 VDC isolated DC/DC converter, 5V input, 12V output, SIP; ki_fp_filters: Converter*DCDC*Murata*MEE3SxxxxSC*THT*; Footprint: Converter_DCDC:Converter_DCDC_Murata_MEE3SxxxxSC_THT; Supplier: https://power.murata.com/pub/data/power/ncl/kdc_mee3.pdf
footprint Converter_DCDC_Murata_MEE3SxxxxSC_THT
pins: 1 -Vin (power), 2 +Vin (power), 3 -Vout (power), 4 +Vout (power)

## MEE3S0515SC
designator *  value MEE3S0515SC
ki_keywords: murata DC/DC isolated converter; ki_description: 3W, 1000 VDC isolated DC/DC converter, 5V input, 15V output, SIP; ki_fp_filters: Converter*DCDC*Murata*MEE3SxxxxSC*THT*; Footprint: Converter_DCDC:Converter_DCDC_Murata_MEE3SxxxxSC_THT; Supplier: https://power.murata.com/pub/data/power/ncl/kdc_mee3.pdf
footprint Converter_DCDC_Murata_MEE3SxxxxSC_THT
pins: 1 -Vin (power), 2 +Vin (power), 3 -Vout (power), 4 +Vout (power)

## MEE3S1205SC
designator *  value MEE3S1205SC
ki_keywords: murata DC/DC isolated converter; ki_description: 3W, 1000 VDC isolated DC/DC converter, 12V input, 5V output, SIP; ki_fp_filters: Converter*DCDC*Murata*MEE3SxxxxSC*THT*; Footprint: Converter_DCDC:Converter_DCDC_Murata_MEE3SxxxxSC_THT; Supplier: https://power.murata.com/pub/data/power/ncl/kdc_mee3.pdf
footprint Converter_DCDC_Murata_MEE3SxxxxSC_THT
pins: 1 -Vin (power), 2 +Vin (power), 3 -Vout (power), 4 +Vout (power)

## MEE3S1209SC
designator *  value MEE3S1209SC
ki_keywords: murata DC/DC isolated converter; ki_description: 3W, 1000 VDC isolated DC/DC converter, 12V input, 9V output, SIP; ki_fp_filters: Converter*DCDC*Murata*MEE3SxxxxSC*THT*; Footprint: Converter_DCDC:Converter_DCDC_Murata_MEE3SxxxxSC_THT; Supplier: https://power.murata.com/pub/data/power/ncl/kdc_mee3.pdf
footprint Converter_DCDC_Murata_MEE3SxxxxSC_THT
pins: 1 -Vin (power), 2 +Vin (power), 3 -Vout (power), 4 +Vout (power)

## MEE3S1212SC
designator *  value MEE3S1212SC
ki_keywords: murata DC/DC isolated converter; ki_description: 3W, 1000 VDC isolated DC/DC converter, 12V input, 12V output, SIP; ki_fp_filters: Converter*DCDC*Murata*MEE3SxxxxSC*THT*; Footprint: Converter_DCDC:Converter_DCDC_Murata_MEE3SxxxxSC_THT; Supplier: https://power.murata.com/pub/data/power/ncl/kdc_mee3.pdf
footprint Converter_DCDC_Murata_MEE3SxxxxSC_THT
pins: 1 -Vin (power), 2 +Vin (power), 3 -Vout (power), 4 +Vout (power)

## MEE3S1215SC
designator *  value MEE3S1215SC
ki_keywords: murata DC/DC isolated converter; ki_description: 3W, 1000 VDC isolated DC/DC converter, 12V input, 15V output, SIP; ki_fp_filters: Converter*DCDC*Murata*MEE3SxxxxSC*THT*; Footprint: Converter_DCDC:Converter_DCDC_Murata_MEE3SxxxxSC_THT; Supplier: https://power.murata.com/pub/data/power/ncl/kdc_mee3.pdf
footprint Converter_DCDC_Murata_MEE3SxxxxSC_THT
pins: 1 -Vin (power), 2 +Vin (power), 3 -Vout (power), 4 +Vout (power)

## MGJ2D051505SC
designator *  value MGJ2D051505SC
ki_keywords: DC/DC converter; ki_description: 5.2kVDC Isolated 2W Gate Drive, 5V Vin, +15V/-5V Vout; ki_fp_filters: Converter*DCDC*Murata*MGJ2DxxxxxxSC*; Footprint: Converter_DCDC:Converter_DCDC_Murata_MGJ2DxxxxxxSC_THT; Supplier: https://power.murata.com/pub/data/power/ncl/kdc_mgj2.pdf
footprint Converter_DCDC_Murata_MGJ2DxxxxxxSC_THT
pins: 1 +VIN (power), 2 -VIN (power), 5 -VOUT (power), 6 0V (power), 7 +VOUT (power)

## MGJ2D051509SC
designator *  value MGJ2D051509SC
ki_keywords: DC/DC converter; ki_description: 5.2kVDC Isolated 2W Gate Drive, 5V Vin, +15V/-8.7V Vout; ki_fp_filters: Converter*DCDC*Murata*MGJ2DxxxxxxSC*; Footprint: Converter_DCDC:Converter_DCDC_Murata_MGJ2DxxxxxxSC_THT; Supplier: https://power.murata.com/pub/data/power/ncl/kdc_mgj2.pdf
footprint Converter_DCDC_Murata_MGJ2DxxxxxxSC_THT
pins: 1 +VIN (power), 2 -VIN (power), 5 -VOUT (power), 6 0V (power), 7 +VOUT (power)

## MGJ2D051515SC
designator *  value MGJ2D051515SC
ki_keywords: DC/DC converter; ki_description: 5.2kVDC Isolated 2W Gate Drive, 5V Vin, +15V/-15V Vout; ki_fp_filters: Converter*DCDC*Murata*MGJ2DxxxxxxSC*; Footprint: Converter_DCDC:Converter_DCDC_Murata_MGJ2DxxxxxxSC_THT; Supplier: https://power.murata.com/pub/data/power/ncl/kdc_mgj2.pdf
footprint Converter_DCDC_Murata_MGJ2DxxxxxxSC_THT
pins: 1 +VIN (power), 2 -VIN (power), 5 -VOUT (power), 6 0V (power), 7 +VOUT (power)

## MGJ2D051802SC
designator *  value MGJ2D051802SC
ki_keywords: DC/DC converter; ki_description: 5.2kVDC Isolated 2W Gate Drive, 5V Vin, +18V/-2.5V Vout; ki_fp_filters: Converter*DCDC*Murata*MGJ2DxxxxxxSC*; Footprint: Converter_DCDC:Converter_DCDC_Murata_MGJ2DxxxxxxSC_THT; Supplier: https://power.murata.com/pub/data/power/ncl/kdc_mgj2.pdf
footprint Converter_DCDC_Murata_MGJ2DxxxxxxSC_THT
pins: 1 +VIN (power), 2 -VIN (power), 5 -VOUT (power), 6 0V (power), 7 +VOUT (power)

## MGJ2D052003SC
designator *  value MGJ2D052003SC
ki_keywords: DC/DC converter; ki_description: 5.2kVDC Isolated 2W Gate Drive, 5V Vin, +20V/-3.5V Vout; ki_fp_filters: Converter*DCDC*Murata*MGJ2DxxxxxxSC*; Footprint: Converter_DCDC:Converter_DCDC_Murata_MGJ2DxxxxxxSC_THT; Supplier: https://power.murata.com/pub/data/power/ncl/kdc_mgj2.pdf
footprint Converter_DCDC_Murata_MGJ2DxxxxxxSC_THT
pins: 1 +VIN (power), 2 -VIN (power), 5 -VOUT (power), 6 0V (power), 7 +VOUT (power)

## MGJ2D052005SC
designator *  value MGJ2D052005SC
ki_keywords: DC/DC converter; ki_description: 5.2kVDC Isolated 2W Gate Drive, 5V Vin, +20V/-5V Vout; ki_fp_filters: Converter*DCDC*Murata*MGJ2DxxxxxxSC*; Footprint: Converter_DCDC:Converter_DCDC_Murata_MGJ2DxxxxxxSC_THT; Supplier: https://power.murata.com/pub/data/power/ncl/kdc_mgj2.pdf
footprint Converter_DCDC_Murata_MGJ2DxxxxxxSC_THT
pins: 1 +VIN (power), 2 -VIN (power), 5 -VOUT (power), 6 0V (power), 7 +VOUT (power)

## MGJ2D121505SC
designator *  value MGJ2D121505SC
ki_keywords: DC/DC converter; ki_description: 5.2kVDC Isolated 2W Gate Drive, 12V Vin, +15V/-5V Vout; ki_fp_filters: Converter*DCDC*Murata*MGJ2DxxxxxxSC*; Footprint: Converter_DCDC:Converter_DCDC_Murata_MGJ2DxxxxxxSC_THT; Supplier: https://power.murata.com/pub/data/power/ncl/kdc_mgj2.pdf
footprint Converter_DCDC_Murata_MGJ2DxxxxxxSC_THT
pins: 1 +VIN (power), 2 -VIN (power), 5 -VOUT (power), 6 0V (power), 7 +VOUT (power)

## MGJ2D121509SC
designator *  value MGJ2D121509SC
ki_keywords: DC/DC converter; ki_description: 5.2kVDC Isolated 2W Gate Drive, 12V Vin, +15V/-8.7V Vout; ki_fp_filters: Converter*DCDC*Murata*MGJ2DxxxxxxSC*; Footprint: Converter_DCDC:Converter_DCDC_Murata_MGJ2DxxxxxxSC_THT; Supplier: https://power.murata.com/pub/data/power/ncl/kdc_mgj2.pdf
footprint Converter_DCDC_Murata_MGJ2DxxxxxxSC_THT
pins: 1 +VIN (power), 2 -VIN (power), 5 -VOUT (power), 6 0V (power), 7 +VOUT (power)

## MGJ2D121802SC
designator *  value MGJ2D121802SC
ki_keywords: DC/DC converter; ki_description: 5.2kVDC Isolated 2W Gate Drive, 12V Vin, +18V/-2.5V Vout; ki_fp_filters: Converter*DCDC*Murata*MGJ2DxxxxxxSC*; Footprint: Converter_DCDC:Converter_DCDC_Murata_MGJ2DxxxxxxSC_THT; Supplier: https://power.murata.com/pub/data/power/ncl/kdc_mgj2.pdf
footprint Converter_DCDC_Murata_MGJ2DxxxxxxSC_THT
pins: 1 +VIN (power), 2 -VIN (power), 5 -VOUT (power), 6 0V (power), 7 +VOUT (power)

## MGJ2D122003SC
designator *  value MGJ2D122003SC
ki_keywords: DC/DC converter; ki_description: 5.2kVDC Isolated 2W Gate Drive, 12V Vin, +18V/-3.5V Vout; ki_fp_filters: Converter*DCDC*Murata*MGJ2DxxxxxxSC*; Footprint: Converter_DCDC:Converter_DCDC_Murata_MGJ2DxxxxxxSC_THT; Supplier: https://power.murata.com/pub/data/power/ncl/kdc_mgj2.pdf
footprint Converter_DCDC_Murata_MGJ2DxxxxxxSC_THT
pins: 1 +VIN (power), 2 -VIN (power), 5 -VOUT (power), 6 0V (power), 7 +VOUT (power)

## MGJ2D122005SC
designator *  value MGJ2D122005SC
ki_keywords: DC/DC converter; ki_description: 5.2kVDC Isolated 2W Gate Drive, 12V Vin, +20V/-5V Vout; ki_fp_filters: Converter*DCDC*Murata*MGJ2DxxxxxxSC*; Footprint: Converter_DCDC:Converter_DCDC_Murata_MGJ2DxxxxxxSC_THT; Supplier: https://power.murata.com/pub/data/power/ncl/kdc_mgj2.pdf
footprint Converter_DCDC_Murata_MGJ2DxxxxxxSC_THT
pins: 1 +VIN (power), 2 -VIN (power), 5 -VOUT (power), 6 0V (power), 7 +VOUT (power)

## MGJ2D151505SC
designator *  value MGJ2D151505SC
ki_keywords: DC/DC converter; ki_description: 5.2kVDC Isolated 2W Gate Drive, 15V Vin, +15V/-5V Vout; ki_fp_filters: Converter*DCDC*Murata*MGJ2DxxxxxxSC*; Footprint: Converter_DCDC:Converter_DCDC_Murata_MGJ2DxxxxxxSC_THT; Supplier: https://power.murata.com/pub/data/power/ncl/kdc_mgj2.pdf
footprint Converter_DCDC_Murata_MGJ2DxxxxxxSC_THT
pins: 1 +VIN (power), 2 -VIN (power), 5 -VOUT (power), 6 0V (power), 7 +VOUT (power)

## MGJ2D151509SC
designator *  value MGJ2D151509SC
ki_keywords: DC/DC converter; ki_description: 5.2kVDC Isolated 2W Gate Drive, 15V Vin, +15V/-8.7V Vout; ki_fp_filters: Converter*DCDC*Murata*MGJ2DxxxxxxSC*; Footprint: Converter_DCDC:Converter_DCDC_Murata_MGJ2DxxxxxxSC_THT; Supplier: https://power.murata.com/pub/data/power/ncl/kdc_mgj2.pdf
footprint Converter_DCDC_Murata_MGJ2DxxxxxxSC_THT
pins: 1 +VIN (power), 2 -VIN (power), 5 -VOUT (power), 6 0V (power), 7 +VOUT (power)

## MGJ2D151515SC
designator *  value MGJ2D151515SC
ki_keywords: DC/DC converter; ki_description: 5.2kVDC Isolated 2W Gate Drive, 15V Vin, +15V/-15V Vout; ki_fp_filters: Converter*DCDC*Murata*MGJ2DxxxxxxSC*; Footprint: Converter_DCDC:Converter_DCDC_Murata_MGJ2DxxxxxxSC_THT; Supplier: https://power.murata.com/pub/data/power/ncl/kdc_mgj2.pdf
footprint Converter_DCDC_Murata_MGJ2DxxxxxxSC_THT
pins: 1 +VIN (power), 2 -VIN (power), 5 -VOUT (power), 6 0V (power), 7 +VOUT (power)

## MGJ2D151802SC
designator *  value MGJ2D151802SC
ki_keywords: DC/DC converter; ki_description: 5.2kVDC Isolated 2W Gate Drive, 15V Vin, +18V/-2.5V Vout; ki_fp_filters: Converter*DCDC*Murata*MGJ2DxxxxxxSC*; Footprint: Converter_DCDC:Converter_DCDC_Murata_MGJ2DxxxxxxSC_THT; Supplier: https://power.murata.com/pub/data/power/ncl/kdc_mgj2.pdf
footprint Converter_DCDC_Murata_MGJ2DxxxxxxSC_THT
pins: 1 +VIN (power), 2 -VIN (power), 5 -VOUT (power), 6 0V (power), 7 +VOUT (power)

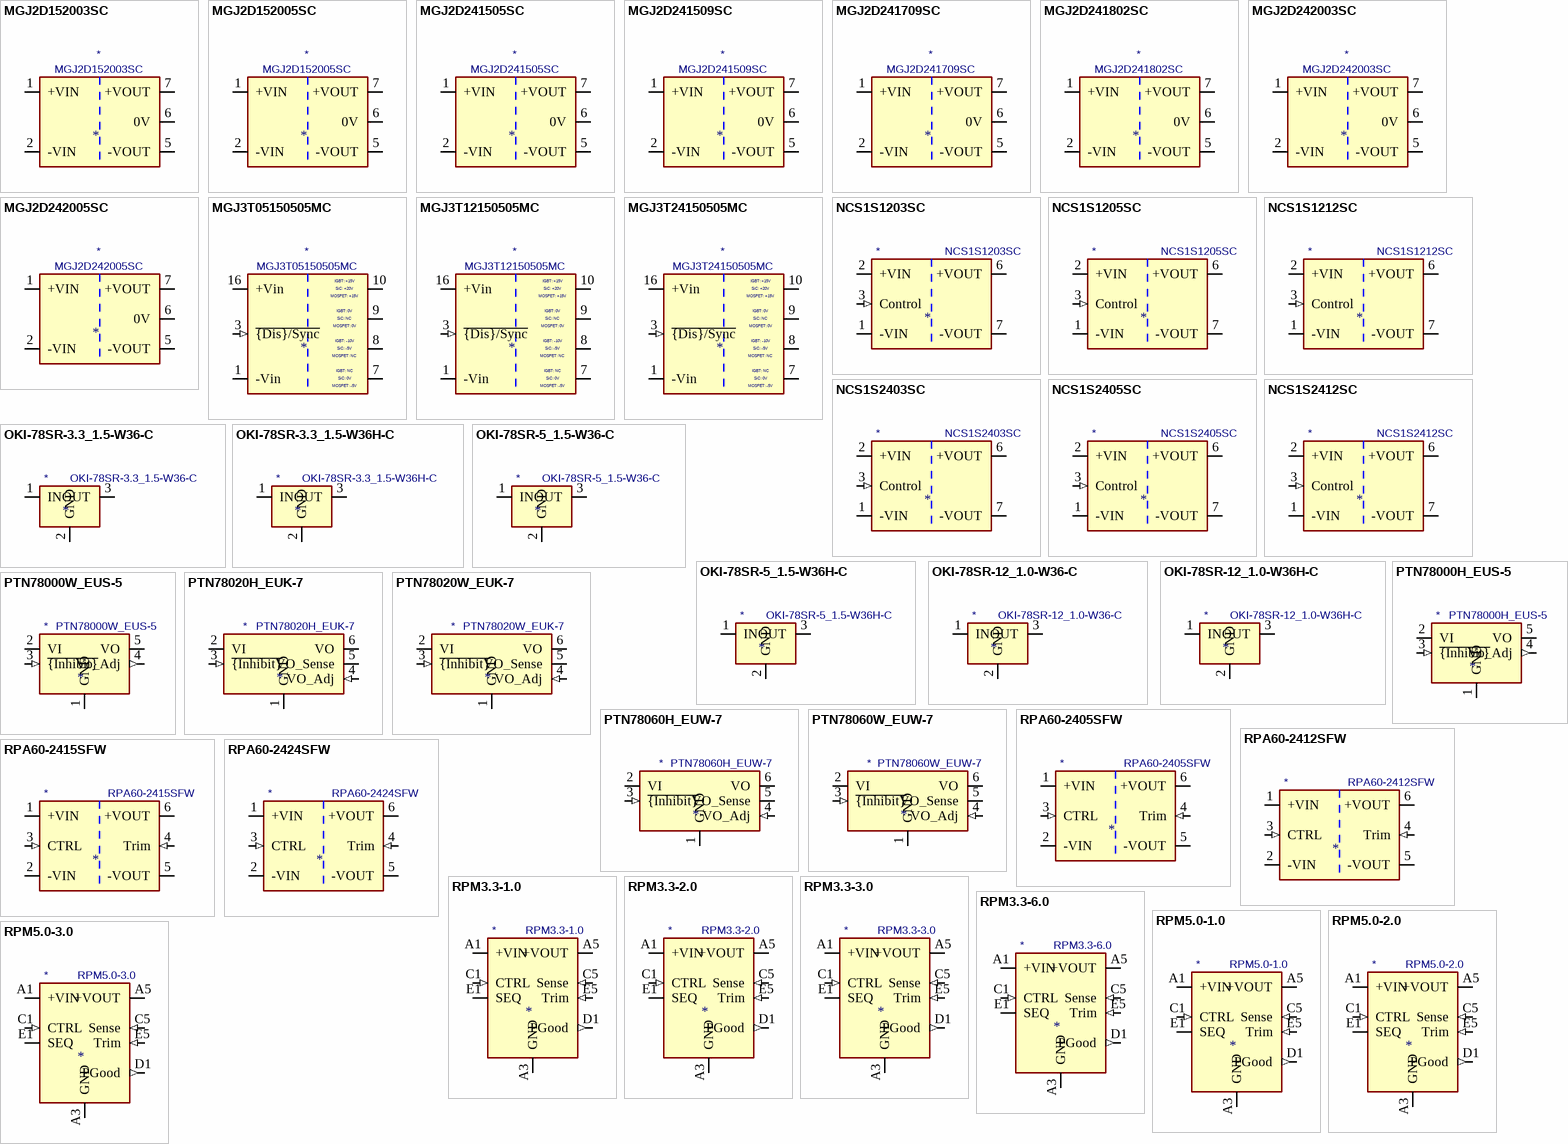
[diagram p11: symbols MGJ2D152003SC to RPM5.0-3.0]

## MGJ2D152003SC
designator *  value MGJ2D152003SC
ki_keywords: DC/DC converter; ki_description: 5.2kVDC Isolated 2W Gate Drive, 15V Vin, +20V/-3.5V Vout; ki_fp_filters: Converter*DCDC*Murata*MGJ2DxxxxxxSC*; Footprint: Converter_DCDC:Converter_DCDC_Murata_MGJ2DxxxxxxSC_THT; Supplier: https://power.murata.com/pub/data/power/ncl/kdc_mgj2.pdf
footprint Converter_DCDC_Murata_MGJ2DxxxxxxSC_THT
pins: 1 +VIN (power), 2 -VIN (power), 5 -VOUT (power), 6 0V (power), 7 +VOUT (power)

## MGJ2D152005SC
designator *  value MGJ2D152005SC
ki_keywords: DC/DC converter; ki_description: 5.2kVDC Isolated 2W Gate Drive, 15V Vin, +20V/-5V Vout; ki_fp_filters: Converter*DCDC*Murata*MGJ2DxxxxxxSC*; Footprint: Converter_DCDC:Converter_DCDC_Murata_MGJ2DxxxxxxSC_THT; Supplier: https://power.murata.com/pub/data/power/ncl/kdc_mgj2.pdf
footprint Converter_DCDC_Murata_MGJ2DxxxxxxSC_THT
pins: 1 +VIN (power), 2 -VIN (power), 5 -VOUT (power), 6 0V (power), 7 +VOUT (power)

## MGJ2D241505SC
designator *  value MGJ2D241505SC
ki_keywords: DC/DC converter; ki_description: 5.2kVDC Isolated 2W Gate Drive, 24V Vin, +15V/-5V Vout; ki_fp_filters: Converter*DCDC*Murata*MGJ2DxxxxxxSC*; Footprint: Converter_DCDC:Converter_DCDC_Murata_MGJ2DxxxxxxSC_THT; Supplier: https://power.murata.com/pub/data/power/ncl/kdc_mgj2.pdf
footprint Converter_DCDC_Murata_MGJ2DxxxxxxSC_THT
pins: 1 +VIN (power), 2 -VIN (power), 5 -VOUT (power), 6 0V (power), 7 +VOUT (power)

## MGJ2D241509SC
designator *  value MGJ2D241509SC
ki_keywords: DC/DC converter; ki_description: 5.2kVDC Isolated 2W Gate Drive, 24V Vin, +15V/-8.7V Vout; ki_fp_filters: Converter*DCDC*Murata*MGJ2DxxxxxxSC*; Footprint: Converter_DCDC:Converter_DCDC_Murata_MGJ2DxxxxxxSC_THT; Supplier: https://power.murata.com/pub/data/power/ncl/kdc_mgj2.pdf
footprint Converter_DCDC_Murata_MGJ2DxxxxxxSC_THT
pins: 1 +VIN (power), 2 -VIN (power), 5 -VOUT (power), 6 0V (power), 7 +VOUT (power)

## MGJ2D241709SC
designator *  value MGJ2D241709SC
ki_keywords: DC/DC converter; ki_description: 5.2kVDC Isolated 2W Gate Drive, 24V Vin, +17V/-9V Vout; ki_fp_filters: Converter*DCDC*Murata*MGJ2DxxxxxxSC*; Footprint: Converter_DCDC:Converter_DCDC_Murata_MGJ2DxxxxxxSC_THT; Supplier: https://power.murata.com/pub/data/power/ncl/kdc_mgj2.pdf
footprint Converter_DCDC_Murata_MGJ2DxxxxxxSC_THT
pins: 1 +VIN (power), 2 -VIN (power), 5 -VOUT (power), 6 0V (power), 7 +VOUT (power)

## MGJ2D241802SC
designator *  value MGJ2D241802SC
ki_keywords: DC/DC converter; ki_description: 5.2kVDC Isolated 2W Gate Drive, 24V Vin, +18V/-2.5V Vout; ki_fp_filters: Converter*DCDC*Murata*MGJ2DxxxxxxSC*; Footprint: Converter_DCDC:Converter_DCDC_Murata_MGJ2DxxxxxxSC_THT; Supplier: https://power.murata.com/pub/data/power/ncl/kdc_mgj2.pdf
footprint Converter_DCDC_Murata_MGJ2DxxxxxxSC_THT
pins: 1 +VIN (power), 2 -VIN (power), 5 -VOUT (power), 6 0V (power), 7 +VOUT (power)

## MGJ2D242003SC
designator *  value MGJ2D242003SC
ki_keywords: DC/DC converter; ki_description: 5.2kVDC Isolated 2W Gate Drive, 24V Vin, +20V/-3.5V Vout; ki_fp_filters: Converter*DCDC*Murata*MGJ2DxxxxxxSC*; Footprint: Converter_DCDC:Converter_DCDC_Murata_MGJ2DxxxxxxSC_THT; Supplier: https://power.murata.com/pub/data/power/ncl/kdc_mgj2.pdf
footprint Converter_DCDC_Murata_MGJ2DxxxxxxSC_THT
pins: 1 +VIN (power), 2 -VIN (power), 5 -VOUT (power), 6 0V (power), 7 +VOUT (power)

## MGJ2D242005SC
designator *  value MGJ2D242005SC
ki_keywords: DC/DC converter; ki_description: 5.2kVDC Isolated 2W Gate Drive, 24V Vin, +20V/-5V Vout; ki_fp_filters: Converter*DCDC*Murata*MGJ2DxxxxxxSC*; Footprint: Converter_DCDC:Converter_DCDC_Murata_MGJ2DxxxxxxSC_THT; Supplier: https://power.murata.com/pub/data/power/ncl/kdc_mgj2.pdf
footprint Converter_DCDC_Murata_MGJ2DxxxxxxSC_THT
pins: 1 +VIN (power), 2 -VIN (power), 5 -VOUT (power), 6 0V (power), 7 +VOUT (power)

## MGJ3T05150505MC
designator *  value MGJ3T05150505MC
ki_keywords: DC/DC converter; ki_description: 5.2kVDC Isolated 3W Gate Drive, 4.5-9V Vin, +15V/-5V or +15V/-10V or +20V/-5V Vout; ki_fp_filters: Converter*DCDC*Murata*MGJ3*; Footprint: Converter_DCDC:Converter_DCDC_Murata_MGJ3; Supplier: https://power.murata.com/datasheet?/data/power/ncl/kdc_mgj3.pdf
footprint Converter_DCDC_Murata_MGJ3
pins: 1 -Vin (power), 3 ~{{Dis}/Sync} (in), 7 (power), 8 (power), 9 (power), 10 (power), 16 +Vin (power)
text: IGBT: +15V; SiC: +20V; MOSFET: +15V; IGBT: 0V; SiC: NC; MOSFET: 0V; IGBT: -10V; SiC: -5V; MOSFET: NC; IGBT: NC; SiC: 0V; MOSFET: -5V

## MGJ3T12150505MC
designator *  value MGJ3T12150505MC
ki_keywords: DC/DC converter; ki_description: 5.2kVDC Isolated 3W Gate Drive, 9-18V Vin, +15V/-5V or +15V/-10V or +20V/-5V Vout; ki_fp_filters: Converter*DCDC*Murata*MGJ3*; Footprint: Converter_DCDC:Converter_DCDC_Murata_MGJ3; Supplier: https://power.murata.com/datasheet?/data/power/ncl/kdc_mgj3.pdf
footprint Converter_DCDC_Murata_MGJ3
pins: 1 -Vin (power), 3 ~{{Dis}/Sync} (in), 7 (power), 8 (power), 9 (power), 10 (power), 16 +Vin (power)
text: IGBT: +15V; SiC: +20V; MOSFET: +15V; IGBT: 0V; SiC: NC; MOSFET: 0V; IGBT: -10V; SiC: -5V; MOSFET: NC; IGBT: NC; SiC: 0V; MOSFET: -5V

## MGJ3T24150505MC
designator *  value MGJ3T24150505MC
ki_keywords: DC/DC converter; ki_description: 5.2kVDC Isolated 3W Gate Drive, 18-36V Vin, +15V/-5V or +15V/-10V or +20V/-5V Vout; ki_fp_filters: Converter*DCDC*Murata*MGJ3*; Footprint: Converter_DCDC:Converter_DCDC_Murata_MGJ3; Supplier: https://power.murata.com/datasheet?/data/power/ncl/kdc_mgj3.pdf
footprint Converter_DCDC_Murata_MGJ3
pins: 1 -Vin (power), 3 ~{{Dis}/Sync} (in), 7 (power), 8 (power), 9 (power), 10 (power), 16 +Vin (power)
text: IGBT: +15V; SiC: +20V; MOSFET: +15V; IGBT: 0V; SiC: NC; MOSFET: 0V; IGBT: -10V; SiC: -5V; MOSFET: NC; IGBT: NC; SiC: 0V; MOSFET: -5V

## NCS1S1203SC
designator *  value NCS1S1203SC
ki_keywords: Murata isolated isolation dc-dc converter step-down; ki_description: Isolated 1W 4:1 input DC/DC converter module, 4.5-18V input voltage, 3.3V output voltage, SIP; ki_fp_filters: Converter*DCDC*Murata*NCS1SxxxxSC*; Footprint: Converter_DCDC:Converter_DCDC_Murata_NCS1SxxxxSC_THT; Supplier: https://power.murata.com/data/power/ncl/kdc_ncs1.pdf
footprint Converter_DCDC_Murata_NCS1SxxxxSC_THT
pins: 1 -VIN (power), 2 +VIN (power), 3 Control (in), 6 +VOUT (power), 7 -VOUT (power)

## NCS1S1205SC
designator *  value NCS1S1205SC
ki_keywords: Murata isolated isolation dc-dc converter step-down; ki_description: Isolated 1W 4:1 input DC/DC converter module, 4.5-18V input voltage, 5.0V output voltage, SIP; ki_fp_filters: Converter*DCDC*Murata*NCS1SxxxxSC*; Footprint: Converter_DCDC:Converter_DCDC_Murata_NCS1SxxxxSC_THT; Supplier: https://power.murata.com/data/power/ncl/kdc_ncs1.pdf
footprint Converter_DCDC_Murata_NCS1SxxxxSC_THT
pins: 1 -VIN (power), 2 +VIN (power), 3 Control (in), 6 +VOUT (power), 7 -VOUT (power)

## NCS1S1212SC
designator *  value NCS1S1212SC
ki_keywords: Murata isolated isolation dc-dc converter step-down; ki_description: Isolated 1W 4:1 input DC/DC converter module, 4.5-18V input voltage, 12.0V output voltage, SIP; ki_fp_filters: Converter*DCDC*Murata*NCS1SxxxxSC*; Footprint: Converter_DCDC:Converter_DCDC_Murata_NCS1SxxxxSC_THT; Supplier: https://power.murata.com/data/power/ncl/kdc_ncs1.pdf
footprint Converter_DCDC_Murata_NCS1SxxxxSC_THT
pins: 1 -VIN (power), 2 +VIN (power), 3 Control (in), 6 +VOUT (power), 7 -VOUT (power)

## NCS1S2403SC
designator *  value NCS1S2403SC
ki_keywords: Murata isolated isolation dc-dc converter step-down; ki_description: Isolated 1W 4:1 input DC/DC converter module, 9-36V input voltage, 3.3V output voltage, SIP; ki_fp_filters: Converter*DCDC*Murata*NCS1SxxxxSC*; Footprint: Converter_DCDC:Converter_DCDC_Murata_NCS1SxxxxSC_THT; Supplier: https://power.murata.com/data/power/ncl/kdc_ncs1.pdf
footprint Converter_DCDC_Murata_NCS1SxxxxSC_THT
pins: 1 -VIN (power), 2 +VIN (power), 3 Control (in), 6 +VOUT (power), 7 -VOUT (power)

## NCS1S2405SC
designator *  value NCS1S2405SC
ki_keywords: Murata isolated isolation dc-dc converter step-down; ki_description: Isolated 1W 4:1 input DC/DC converter module, 9-36V input voltage, 5.0V output voltage, SIP; ki_fp_filters: Converter*DCDC*Murata*NCS1SxxxxSC*; Footprint: Converter_DCDC:Converter_DCDC_Murata_NCS1SxxxxSC_THT; Supplier: https://power.murata.com/data/power/ncl/kdc_ncs1.pdf
footprint Converter_DCDC_Murata_NCS1SxxxxSC_THT
pins: 1 -VIN (power), 2 +VIN (power), 3 Control (in), 6 +VOUT (power), 7 -VOUT (power)

## NCS1S2412SC
designator *  value NCS1S2412SC
ki_keywords: Murata isolated isolation dc-dc converter step-down; ki_description: Isolated 1W 4:1 input DC/DC converter module, 9-36V input voltage, 12.0V output voltage, SIP; ki_fp_filters: Converter*DCDC*Murata*NCS1SxxxxSC*; Footprint: Converter_DCDC:Converter_DCDC_Murata_NCS1SxxxxSC_THT; Supplier: https://power.murata.com/data/power/ncl/kdc_ncs1.pdf
footprint Converter_DCDC_Murata_NCS1SxxxxSC_THT
pins: 1 -VIN (power), 2 +VIN (power), 3 Control (in), 6 +VOUT (power), 7 -VOUT (power)

## OKI-78SR-3.3_1.5-W36-C
designator *  value OKI-78SR-3.3_1.5-W36-C
ki_keywords: dc-dc murata Step-Down DC/DC-Regulator; ki_description: 1.5A Step-Down DC/DC-Regulator, 7-36V input, 3.3V fixed Output Voltage, LM78xx replacement, -40°C to +85°C, OKI-78SR_Vertical; ki_fp_filters: Converter*DCDC*Murata*OKI*78SR*Vertical*; Footprint: Converter_DCDC:Converter_DCDC_Murata_OKI-78SR_Vertical; Supplier: https://power.murata.com/data/power/oki-78sr.pdf
footprint Converter_DCDC_Murata_OKI-78SR_Vertical
pins: 1 IN (power), 2 GND (power), 3 OUT (power)

## OKI-78SR-3.3_1.5-W36H-C
designator *  value OKI-78SR-3.3_1.5-W36H-C
ki_keywords: dc-dc murata Step-Down DC/DC-Regulator; ki_description: 1.5A Step-Down DC/DC-Regulator, 7-36V input, 3.3V fixed Output Voltage, LM78xx replacement, -40°C to +85°C, OKI-78SR_Horizontal; ki_fp_filters: Converter*DCDC*Murata*OKI*78SR*Horizontal*; Footprint: Converter_DCDC:Converter_DCDC_Murata_OKI-78SR_Horizontal; Supplier: https://power.murata.com/data/power/oki-78sr.pdf
footprint Converter_DCDC_Murata_OKI-78SR_Horizontal
pins: 1 IN (power), 2 GND (power), 3 OUT (power)

## OKI-78SR-5_1.5-W36-C
designator *  value OKI-78SR-5_1.5-W36-C
ki_keywords: dc-dc murata Step-Down DC/DC-Regulator; ki_description: 1.5A Step-Down DC/DC-Regulator, 7-36V input, 5V fixed Output Voltage, LM78xx replacement, -40°C to +85°C, OKI-78SR_Vertical; ki_fp_filters: Converter*DCDC*Murata*OKI*78SR*Vertical*; Footprint: Converter_DCDC:Converter_DCDC_Murata_OKI-78SR_Vertical; Supplier: https://power.murata.com/data/power/oki-78sr.pdf
footprint Converter_DCDC_Murata_OKI-78SR_Vertical
pins: 1 IN (power), 2 GND (power), 3 OUT (power)

## OKI-78SR-5_1.5-W36H-C
designator *  value OKI-78SR-5_1.5-W36H-C
ki_keywords: dc-dc murata Step-Down DC/DC-Regulator; ki_description: 1.5A Step-Down DC/DC-Regulator, 7-36V input, 5V fixed Output Voltage, LM78xx replacement, -40°C to +85°C, OKI-78SR_Horizontal; ki_fp_filters: Converter*DCDC*Murata*OKI*78SR*Horizontal*; Footprint: Converter_DCDC:Converter_DCDC_Murata_OKI-78SR_Horizontal; Supplier: https://power.murata.com/data/power/oki-78sr.pdf
footprint Converter_DCDC_Murata_OKI-78SR_Horizontal
pins: 1 IN (power), 2 GND (power), 3 OUT (power)

## OKI-78SR-12_1.0-W36-C
designator *  value OKI-78SR-12_1.0-W36-C
ki_keywords: dc-dc murata Step-Down DC/DC-Regulator; ki_description: 1.0A Step-Down DC/DC-Regulator, 15-36V input, 12V fixed Output Voltage, LM78xx replacement, -40°C to +85°C, OKI-78SR_Vertical; ki_fp_filters: Converter*DCDC*Murata*OKI*78SR*Vertical*; Footprint: Converter_DCDC:Converter_DCDC_Murata_OKI-78SR_Vertical; Supplier: https://power.murata.com/data/power/oki-78sr.pdf
footprint Converter_DCDC_Murata_OKI-78SR_Vertical
pins: 1 IN (power), 2 GND (power), 3 OUT (power)

## OKI-78SR-12_1.0-W36H-C
designator *  value OKI-78SR-12_1.0-W36H-C
ki_keywords: dc-dc murata Step-Down DC/DC-Regulator; ki_description: 1.0A Step-Down DC/DC-Regulator, 15-36V input, 12V fixed Output Voltage, LM78xx replacement, -40°C to +85°C, OKI-78SR_Horizontal; ki_fp_filters: Converter*DCDC*Murata*OKI*78SR*Horizontal*; Footprint: Converter_DCDC:Converter_DCDC_Murata_OKI-78SR_Horizontal; Supplier: https://power.murata.com/data/power/oki-78sr.pdf
footprint Converter_DCDC_Murata_OKI-78SR_Horizontal
pins: 1 IN (power), 2 GND (power), 3 OUT (power)

## PTN78000H_EUS-5
designator *  value PTN78000H_EUS-5
ki_keywords: texas dc-dc converter step down buck; ki_description: 1.5A non-isolated switching regulator power module, 7-36V input voltage, 11.85-22V output voltage, EUS-5; ki_fp_filters: Texas*EUS*R?PDSS?T5*; Footprint: Module:Texas_EUS_R-PDSS-T5_THT; Supplier: https://www.ti.com/lit/ds/symlink/ptn78000w.pdf
footprint Texas_EUS_R-PDSS-T5_THT
pins: 1 GND (power), 2 VI (power), 3 ~{{Inhibit}} (in), 4 Vo_Adj (out), 5 VO (power)

## PTN78000W_EUS-5
designator *  value PTN78000W_EUS-5
ki_keywords: texas dc-dc converter step down buck; ki_description: 1.5A non-isolated switching regulator power module, 7-36V input voltage, 2.5-12.6V output voltage, EUS-5; ki_fp_filters: Texas*EUS*R?PDSS?T5*; Footprint: Module:Texas_EUS_R-PDSS-T5_THT; Supplier: https://www.ti.com/lit/ds/symlink/ptn78000w.pdf
footprint Texas_EUS_R-PDSS-T5_THT
pins: 1 GND (power), 2 VI (power), 3 ~{{Inhibit}} (in), 4 Vo_Adj (out), 5 VO (power)

## PTN78020H_EUK-7
designator *  value PTN78020H_EUK-7
ki_keywords: texas dc-dc converter step down buck; ki_description: 6A non-isolated switching regulator power module, 7-36V input voltage, 11.85-22V output voltage, EUK-7; ki_fp_filters: Texas*EUK*R?PDSS?T7*; Footprint: Module:Texas_EUK_R-PDSS-T7_THT; Supplier: https://www.ti.com/lit/ds/symlink/ptn78020w.pdf
footprint Texas_EUK_R-PDSS-T7_THT
pins: 1 GND (power), 2 VI (power), 3 ~{{Inhibit}} (in), 4 VO_Adj (in), 5 VO_Sense (power), 6 VO (power), 7 GND hidden

## PTN78020W_EUK-7
designator *  value PTN78020W_EUK-7
ki_keywords: texas dc-dc converter step down buck; ki_description: 6A non-isolated switching regulator power module, 7-36V input voltage, 2.5-12.6V output voltage, EUK-7; ki_fp_filters: Texas*EUK*R?PDSS?T7*; Footprint: Module:Texas_EUK_R-PDSS-T7_THT; Supplier: https://www.ti.com/lit/ds/symlink/ptn78020w.pdf
footprint Texas_EUK_R-PDSS-T7_THT
pins: 1 GND (power), 2 VI (power), 3 ~{{Inhibit}} (in), 4 VO_Adj (in), 5 VO_Sense (power), 6 VO (power), 7 GND hidden